# EAGLE library part 691309410006 (library Wuerth_Elektronik_eiCan_Terminal_Blocks_v2.0)
WR - TBL Serie 3094 - 7.62mm Reversed Gender Horizontal PCB Header , 6 pins
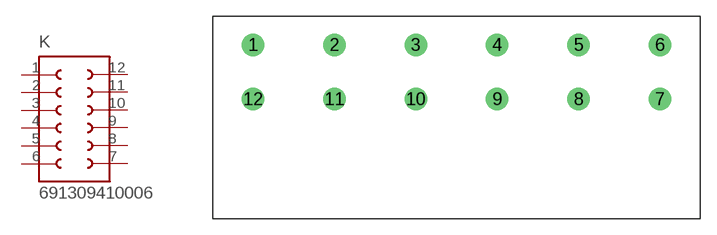
[diagram p197: symbol with the pads of 691309410006; footprint 691309410006]

Designator prefix K

## 691309410006  [691309410006]
1  1  pas
2  2  pas
3  3  pas
4  4  pas
5  5  pas
6  6  pas
7  7  pas
8  8  pas
9  9  pas
10  10  pas
11  11  pas
12  12  pas

## Footprint 691309410006 (pad centres in mm)
WR - TBL Serie 3094 - 7.62mm Reversed Gender Horizontal PCB Header , 6 pins
drill 1.4 round: 1 -22.86,0; 2 -15.24,0; 3 -7.62,0; 4 0,0; 5 7.62,0; 6 15.24,0; 7 15.24,-5.08; 8 7.62,-5.08; 9 0,-5.08; 10 -7.62,-5.08; 11 -15.24,-5.08; 12 -22.86,-5.08